# EAGLE library part RHD2000-CABLE-AMP-SIDE (library harrison)
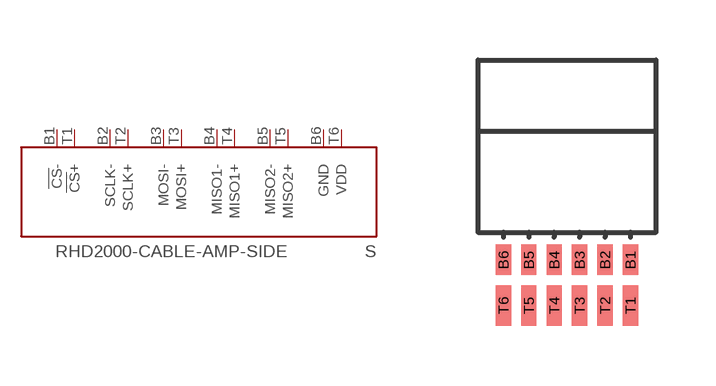
[diagram p75: symbol with the pads of OMNETICS_PZN-12-AA; footprint OMNETICS_PZN-12-AA]

Designator prefix S

## RHD2000-CABLE-AMP-SIDE  [OMNETICS_PZN-12-AA]
B1  !CS!-
B2  SCLK-
B3  MOSI-
B4  MISO1-
B5  MISO2-
B6  GND  pwr
T1  !CS!+
T2  SCLK+
T3  MOSI+
T4  MISO1+
T5  MISO2+
T6  VDD

## Footprint OMNETICS_PZN-12-AA (pad centres in mm)
smd 0.381 x 0.762: B1 1.587,-1.016; B2 0.953,-1.016; B3 0.318,-1.016; B4 -0.318,-1.016; B5 -0.953,-1.016; B6 -1.587,-1.016
smd 0.381 x 1.016: T1 1.587,-2.159; T2 0.953,-2.159; T3 0.318,-2.159; T4 -0.318,-2.159; T5 -0.953,-2.159; T6 -1.587,-2.159